# Altium footprint library 51单片机24.PCBLIB: 48 footprints (part 1 of 3)
Each footprint in its own frame and in the unit in brackets; x right, y up, seen from the top. Pads: shape width x height; smd on the part's side, far side on the other; paste and mask are expansions set on the pad; w line width, h text height; cw(c..) or ccw(c..) is an arc to the next point about the centre after c.
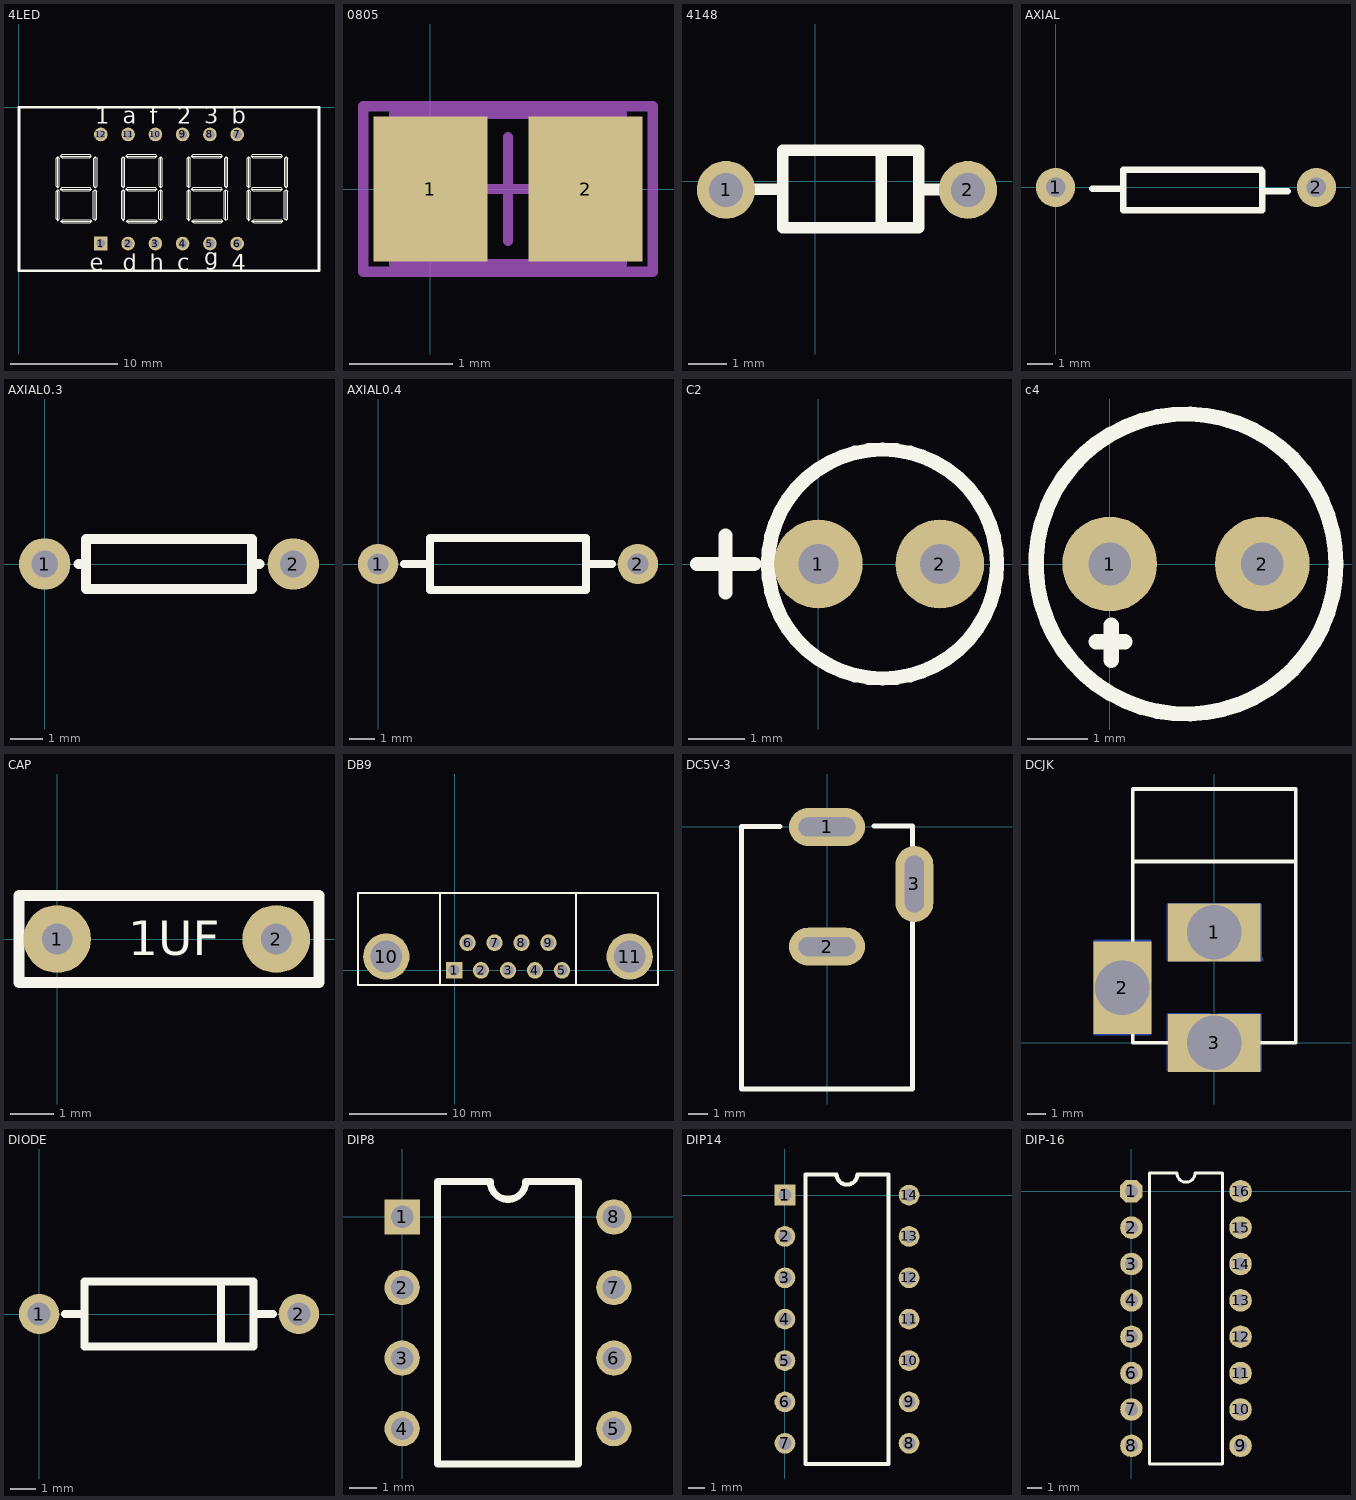
[diagram p0: the footprints below, top view; thin cyan lines are the x and y axes]

## 4LED [mil]
pads (12):
  rect 50x50 hole 32: 1(300,-500)
  round 50 hole 32: 2(400,-500) 3(500,-500) 4(600,-500) 5(700,-500) 6(800,-500) 7(800,-100) 8(700,-100) 9(600,-100) 10(500,-100) 11(400,-100) 12(300,-100)
TopOverlay:
  drawing of 200 lines, arcs and shapes, not listed
  text "1" at 280,-60 h60
  text "a" at 380,-60 h60
  text "f" at 480,-60 h60
  text "2" at 580,-60 h60
  text "3" at 680,-60 h60
  text "b" at 780,-60 h60
  text "4" at 780,-600 h60
  text "g" at 680,-580 h60
  text "c" at 580,-600 h60
  text "h" at 480,-600 h60
  text "d" at 380,-600 h60
  text "e" at 260,-600 h60

## 0805 [mm]
pads (2):
  rect 1.1x1.4 smd: 1(0,0) 2(1.5,0)
Mechanical13:
  lines w0.1: -0.35,-0.725 1.85,-0.725 1.85,0.725 -0.35,0.725 -0.35,-0.725
Mechanical15:
  lines w0.1: 0.25,0 1.25,0 ; 0.75,-0.5 0.75,0.5 ; -0.65,-0.8 2.15,-0.8 2.15,0.8 -0.65,0.8 -0.65,-0.8
3D body: height 1.4, standoff 0, extent -0.35,-0.725 1.85,0.725

## 4148 [mil]
pads (2):
  round 60 hole 35: 1(-92,-9) 2(158,-9)
TopOverlay:
  lines w11.81: 68.51,-48.12 68.51,31.88 ; -33.24,-48.12 107.17,-48.12 107.17,31.88 -33.24,31.88 -33.24,-48.12
  lines w12: -63.24,-8.26 -33.24,-8.26 ; 110.62,-8.62 140.62,-8.62

## AXIAL [mil]
pads (2):
  round 60 hole 30: 1(0,0) 2(400,0)
TopOverlay:
  lines w10: 56,-2 104,-2 ; 317,-6 356,-6 ; 104,-35 317,-35 317,25 315,27 104,27 104,-35

## AXIAL0.3 [mil]
pads (2):
  round 62 hole 32: 1(0,0) 2(300,0)
TopOverlay:
  lines w12: 41,0 50,0 ; 259,0 250,0 ; 250,0 250,-30 50,-30 50,30 250,30 250,0

## AXIAL0.4 [mil]
pads (2):
  round 62 hole 32: 1(0,0) 2(400,0)
TopOverlay:
  lines w12: 40,0 80,0 ; 320,0 360,0 ; 80,-40 320,-40 320,40 80,40 80,-40

## C2 [mil]
pads (2):
  round 62 hole 28: 1(0,0) 2(85,0)
TopOverlay:
  circle w10: c44.84,0 r80.16
  lines w10: -85,0 -45,0 ; -65,-20 -65,20

## c4 [mil]
pads (2):
  round 62 hole 28: 1(0,0) 2(100,0)
TopOverlay:
  circle w10: c50,0 r98.23
  lines w10: -9,-51 10,-51 ; 1,-63 1,-40

## CAP [mil]
pads (2):
  round 62 hole 28: 1(0,0) 2(200.79,0)
TopOverlay:
  lines w10: -35,-40 240,-40 240,40 -35,40 -35,-40
  text "1UF" at 65,-15 h31.5

## DB9 [mm]
pads (11):
  rect 1.69x1.69 hole 1.09: 1(-0.079,0.002)
  round 1.69 hole 1.09: 2(2.691,0.002) 3(5.461,0.002) 4(8.231,0.002) 5(11.001,0.002) 6(1.306,2.842) 7(4.076,2.842) 8(6.846,2.842) 9(9.616,2.842)
  round 4.76 hole 3.26: 10(-7.034,1.422) 11(17.956,1.422)
TopOverlay:
  lines w0.2: -1.539,-1.478 -1.539,7.922 ; 12.461,-1.478 12.461,7.922 ; -9.939,-1.478 -9.939,7.922 20.861,7.922 20.861,-1.478 -9.939,-1.478

## DC5V-3 [mm]
pads (3):
  oval 4x2 hole 1 slot 3 at 0 deg: 1(0,0) 2(0,-6.3)
  oval 2x4 hole 1 slot 3 at 90 deg: 3(4.6,-3)
TopOverlay:
  lines w0.254: -2.482,0.018 -4.5,0.018 -4.5,-13.8 4.5,-13.8 4.5,-5 ; 2.457,0.043 4.5,0.043 4.5,-1

## DCJK [mm]
pads (3):
  rect 5.1x3.2 hole 3: 1(0,6.096) 3(0,0)
  rect 3.2x5.1 hole 3: 2(-5.08,3.048)
BottomLayer:
  lines w0.2: -1.527,5.596 -0.257,5.596 -0.257,4.58 -2.543,4.58 -2.543,7.628 2.537,7.628 2.537,4.58 ; -1.503,0.008 -1.503,0.508 ; -1.503,5.596 -1.503,6.608 1.497,6.608 ; -0.257,0.516 -0.257,1.532 -2.543,1.532 -2.543,-1.516 2.537,-1.516 2.537,1.532 0.251,1.532 0.251,0.516 ; 0.251,4.58 0.251,5.596 1.521,5.596 1.521,6.612 ; 0.314,4.6 2.6,4.6 ; 1.497,0.008 1.497,0.508 ; -5.591,4.58 -4.503,4.58 -4.503,1.508 -5.591,1.508 -5.591,4.58 ; -5.591,4.58 -5.591,1.532 -4.575,1.532 -4.575,2.802 -3.559,2.802 -3.559,0.516 -6.607,0.516 -6.607,5.596 -3.559,5.596 -3.559,3.31 -4.575,3.31 -4.575,4.58 -5.591,4.58 ; -1.503,0.508 -1.503,-0.5 1.497,-0.5 1.497,0.508 ; -1.503,0.508 1.497,0.508
TopOverlay:
  lines w0.2: -4.503,10.008 4.498,10.008 ; -1.503,0.008 -4.503,0.008 -4.503,14.008 4.498,14.008 4.498,0.008 1.497,0.008
KeepOutLayer:
  lines w0.05: -5.6,1.55 -5.6,4.6 -4.6,4.6 -4.6,1.55 -5.6,1.55 ; -1.5,-0.5 1.475,-0.5 1.475,0.475 -1.5,0.475 -1.5,-0.5 ; -1.5,5.6 1.5,5.6 1.5,6.6 -1.5,6.6 -1.5,5.6

## DIODE [mil]
pads (2):
  round 62 hole 35.43: 1(0,0) 2(400,0)
TopOverlay:
  lines w12: 40,0 70,0 ; 280,-50 280,50 ; 330,0 360,0 ; 70,-50 70,50 330,50 330,-50 70,-50

## DIP8 [mil]
pads (8):
  rect 50x50 hole 32: 1(0,0)
  round 50 hole 32: 2(0,-100) 3(0,-200) 4(0,-300) 5(300,-300) 6(300,-200) 7(300,-100) 8(300,0)
TopOverlay:
  lines w10: 50,-350 250,-350 250,50 175,50 cw(c150,50) 125,50 50,50 50,-350

## DIP14 [mil]
pads (14):
  rect 50x50 hole 32: 1(0,0)
  round 50 hole 32: 2(0,-100) 3(0,-200) 4(0,-300) 5(0,-400) 6(0,-500) 7(0,-600) 8(300,-600) 9(300,-500) 10(300,-400) 11(300,-300) 12(300,-200) 13(300,-100) 14(300,0)
TopOverlay:
  lines w10: 50,-650 50,50 125,50 ccw(c150,50) 175,50 250,50 250,-650 50,-650

## DIP-16 [mil]
pads (16):
  oct 62x62 hole 35: 1(0,0)
  round 62 hole 35: 2(0,-100) 3(0,-200) 4(0,-300) 5(0,-400) 6(0,-500) 7(0,-600) 8(0,-700) 9(300,-700) 10(300,-600) 11(300,-500) 12(300,-400) 13(300,-300) 14(300,-200) 15(300,-100) 16(300,0)
TopOverlay:
  lines w7.87: 50,-750 50,50 125,50 ccw(c150,50) 175,50 250,50 250,-750 50,-750